# EAGLE library part STM32F765_767_777_UFBGA176 (library STM32_MCU)
STM32F765_767_777_UFBGA176 edit this description Auto generated by make-symbol-device-package-bsdl.ulp Rev. 44 Source: STM32F765_767_777_UFBGA176.bsd
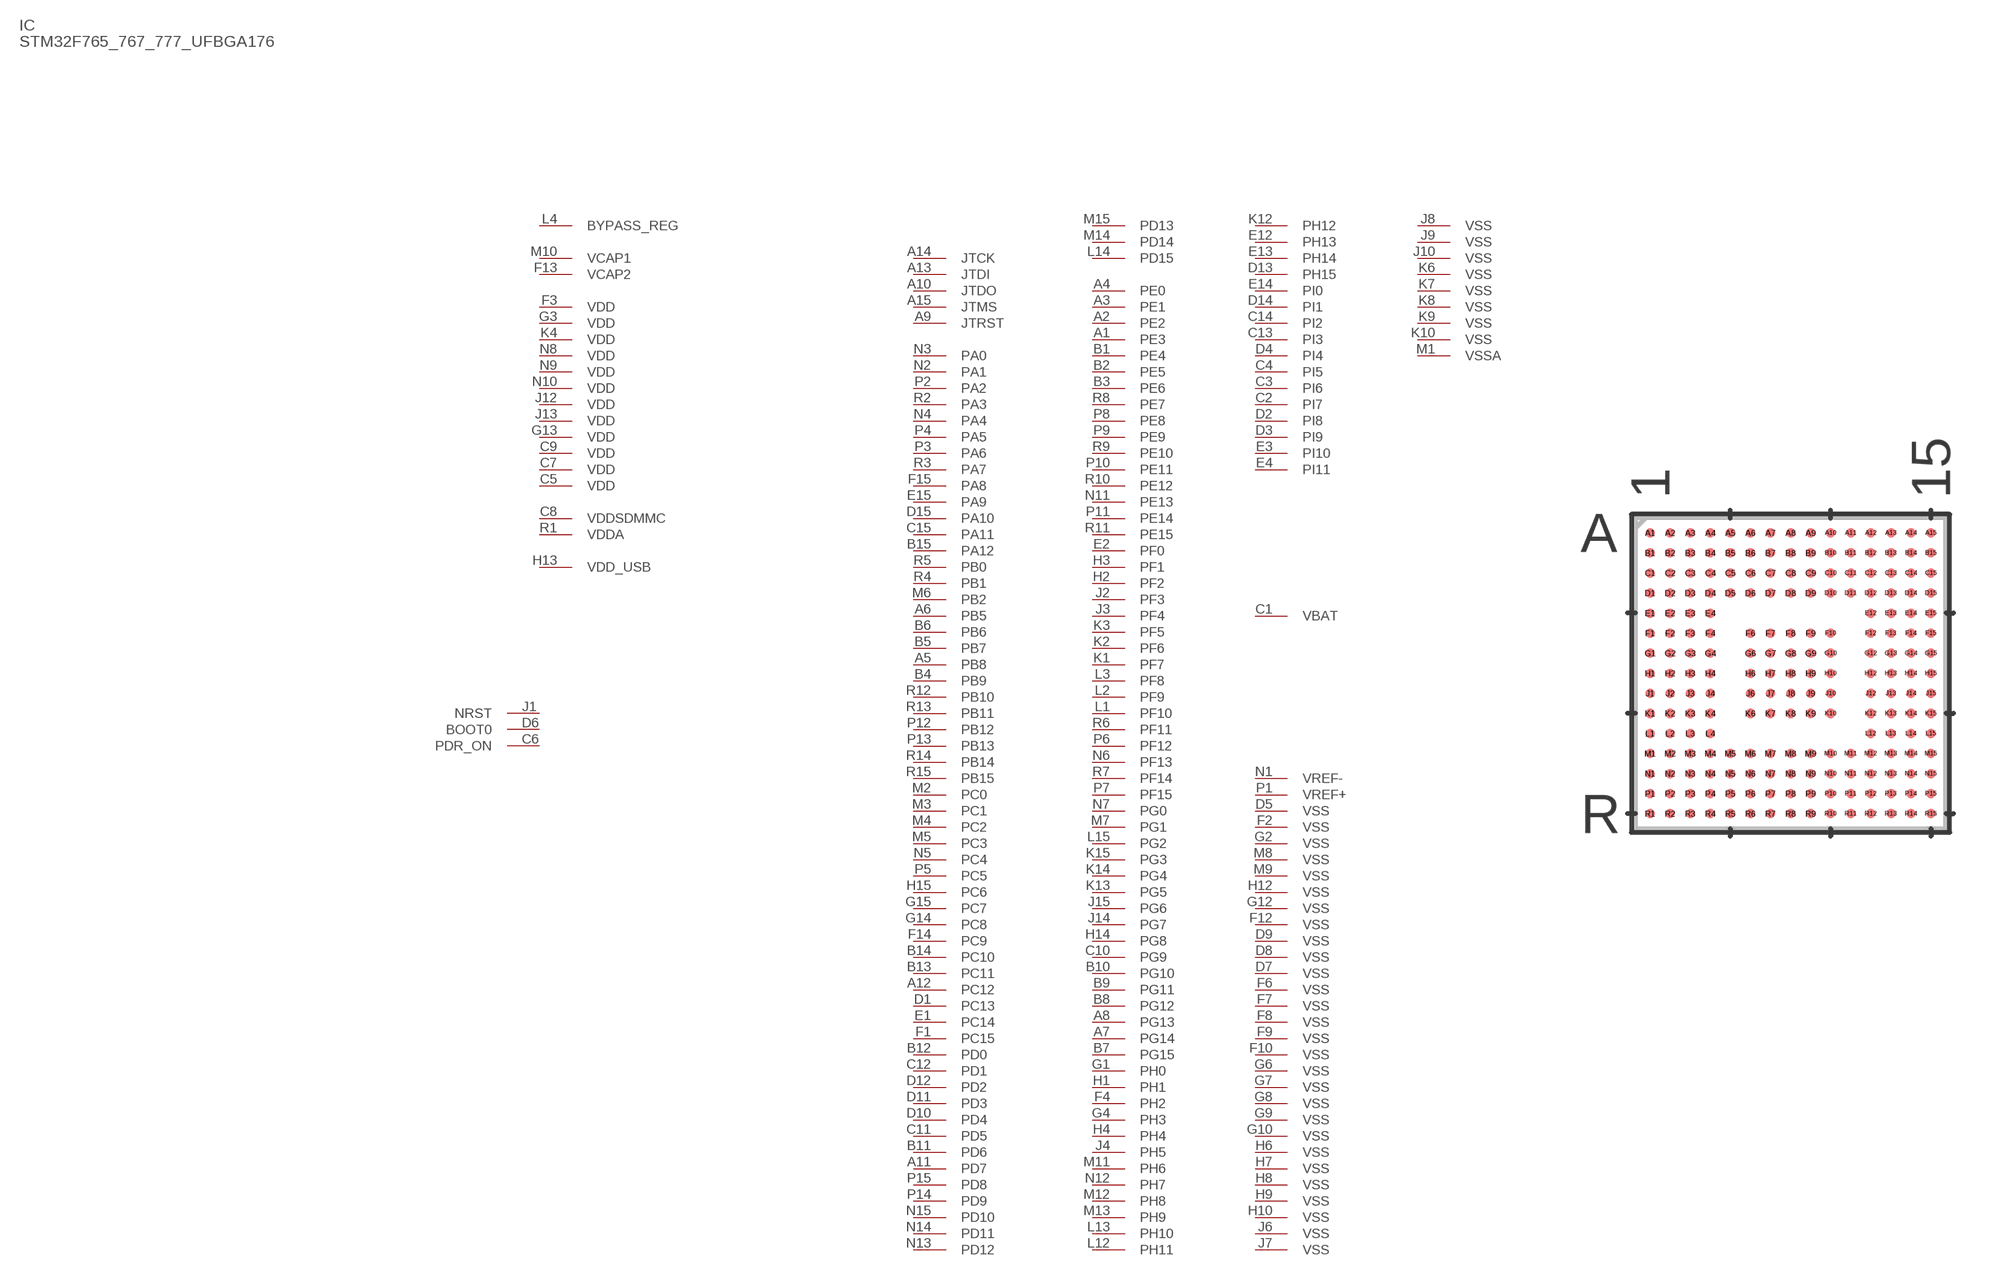
[diagram p0: symbol with the pads of UFBGA-176; footprint UFBGA-176]

Designator prefix IC

## STM32F765_767_777_UFBGA176  [UFBGA-176]
A1  PE3
A2  PE2
A3  PE1
A4  PE0
A5  PB8
A6  PB5
A7  PG14
A8  PG13
A9  JTRST  in
A10  JTDO  out
A11  PD7
A12  PC12
A13  JTDI  in
A14  JTCK  in
A15  JTMS  in
B1  PE4
B2  PE5
B3  PE6
B4  PB9
B5  PB7
B6  PB6
B7  PG15
B8  PG12
B9  PG11
B10  PG10
B11  PD6
B12  PD0
B13  PC11
B14  PC10
B15  PA12
C1  VBAT  pas
C2  PI7
C3  PI6
C4  PI5
C5  VDD  pwr
C6  PDR_ON  pas
C7  VDD  pwr
C8  VDDSDMMC  pwr
C9  VDD  pwr
C10  PG9
C11  PD5
C12  PD1
C13  PI3
C14  PI2
C15  PA11
D1  PC13
D2  PI8
D3  PI9
D4  PI4
D5  VSS  pwr
D6  BOOT0  in
D7  VSS  pwr
D8  VSS  pwr
D9  VSS  pwr
D10  PD4
D11  PD3
D12  PD2
D13  PH15
D14  PI1
D15  PA10
E1  PC14
E2  PF0
E3  PI10
E4  PI11
E12  PH13
E13  PH14
E14  PI0
E15  PA9
F1  PC15
F2  VSS  pwr
F3  VDD  pwr
F4  PH2
F6  VSS  pwr
F7  VSS  pwr
F8  VSS  pwr
F9  VSS  pwr
F10  VSS  pwr
F12  VSS  pwr
F13  VCAP2  pas
F14  PC9
F15  PA8
G1  PH0
G2  VSS  pwr
G3  VDD  pwr
G4  PH3
G6  VSS  pwr
G7  VSS  pwr
G8  VSS  pwr
G9  VSS  pwr
G10  VSS  pwr
G12  VSS  pwr
G13  VDD  pwr
G14  PC8
G15  PC7
H1  PH1
H2  PF2
H3  PF1
H4  PH4
H6  VSS  pwr
H7  VSS  pwr
H8  VSS  pwr
H9  VSS  pwr
H10  VSS  pwr
H12  VSS  pwr
H13  VDD_USB  pwr
H14  PG8
H15  PC6
J1  NRST  in
J2  PF3
J3  PF4
J4  PH5
J6  VSS  pwr
J7  VSS  pwr
J8  VSS  pwr
J9  VSS  pwr
J10  VSS  pwr
J12  VDD  pwr
J13  VDD  pwr
J14  PG7
J15  PG6
K1  PF7
K2  PF6
K3  PF5
K4  VDD  pwr
K6  VSS  pwr
K7  VSS  pwr
K8  VSS  pwr
K9  VSS  pwr
K10  VSS  pwr
K12  PH12
K13  PG5
K14  PG4
K15  PG3
L1  PF10
L2  PF9
L3  PF8
L4  BYPASS_REG  pas
L12  PH11
L13  PH10
L14  PD15
L15  PG2
M1  VSSA  pwr
M2  PC0
M3  PC1
M4  PC2
M5  PC3
M6  PB2
M7  PG1
M8  VSS  pwr
M9  VSS  pwr
M10  VCAP1  pas
M11  PH6
M12  PH8
M13  PH9
M14  PD14
M15  PD13
N1  VREF-  pas
N2  PA1
N3  PA0
N4  PA4
N5  PC4
N6  PF13
N7  PG0
N8  VDD  pwr
N9  VDD  pwr
N10  VDD  pwr
N11  PE13
N12  PH7
N13  PD12
N14  PD11
N15  PD10
P1  VREF+  pas
P2  PA2
P3  PA6
P4  PA5
P5  PC5
P6  PF12
P7  PF15
P8  PE8
P9  PE9
P10  PE11
P11  PE14
P12  PB12
P13  PB13
P14  PD9
P15  PD8
R1  VDDA  pwr
R2  PA3
R3  PA7
R4  PB1
R5  PB0
R6  PF11
R7  PF14
R8  PE7
R9  PE10
R10  PE12
R11  PE15
R12  PB10
R13  PB11
R14  PB14
R15  PB15

## Footprint UFBGA-176 (pad centres in mm)
smd 0.3 x 0.3: A1 -4.55,4.55; A2 -3.9,4.55; A3 -3.25,4.55; A4 -2.6,4.55; A5 -1.95,4.55; A6 -1.3,4.55; A7 -0.65,4.55; A8 0,4.55; A9 0.65,4.55; A10 1.3,4.55; A11 1.95,4.55; A12 2.6,4.55; A13 3.25,4.55; A14 3.9,4.55; A15 4.55,4.55; B1 -4.55,3.9; B2 -3.9,3.9; B3 -3.25,3.9; B4 -2.6,3.9; B5 -1.95,3.9; B6 -1.3,3.9; B7 -0.65,3.9; B8 0,3.9; B9 0.65,3.9; B10 1.3,3.9; B11 1.95,3.9; B12 2.6,3.9; B13 3.25,3.9; B14 3.9,3.9; B15 4.55,3.9; C1 -4.55,3.25; C2 -3.9,3.25; C3 -3.25,3.25; C4 -2.6,3.25; C5 -1.95,3.25; C6 -1.3,3.25; C7 -0.65,3.25; C8 0,3.25; C9 0.65,3.25; C10 1.3,3.25; C11 1.95,3.25; C12 2.6,3.25; C13 3.25,3.25; C14 3.9,3.25; C15 4.55,3.25; D1 -4.55,2.6; D2 -3.9,2.6; D3 -3.25,2.6; D4 -2.6,2.6; D5 -1.95,2.6; D6 -1.3,2.6; D7 -0.65,2.6; D8 0,2.6; D9 0.65,2.6; D10 1.3,2.6; D11 1.95,2.6; D12 2.6,2.6; D13 3.25,2.6; D14 3.9,2.6; D15 4.55,2.6; E1 -4.55,1.95; E2 -3.9,1.95; E3 -3.25,1.95; E4 -2.6,1.95; E12 2.6,1.95; E13 3.25,1.95; E14 3.9,1.95; E15 4.55,1.95; F1 -4.55,1.3; F2 -3.9,1.3; F3 -3.25,1.3; F4 -2.6,1.3; F6 -1.3,1.3; F7 -0.65,1.3; F8 0,1.3; F9 0.65,1.3; F10 1.3,1.3; F12 2.6,1.3; F13 3.25,1.3; F14 3.9,1.3; F15 4.55,1.3; G1 -4.55,0.65; G2 -3.9,0.65; G3 -3.25,0.65; G4 -2.6,0.65; G6 -1.3,0.65; G7 -0.65,0.65; G8 0,0.65; G9 0.65,0.65; G10 1.3,0.65; G12 2.6,0.65; G13 3.25,0.65; G14 3.9,0.65; G15 4.55,0.65; H1 -4.55,0; H2 -3.9,0; H3 -3.25,0; H4 -2.6,0; H6 -1.3,0; H7 -0.65,0; H8 0,0; H9 0.65,0; H10 1.3,0; H12 2.6,0; H13 3.25,0; H14 3.9,0; H15 4.55,0; J1 -4.55,-0.65; J2 -3.9,-0.65; J3 -3.25,-0.65; J4 -2.6,-0.65; J6 -1.3,-0.65; J7 -0.65,-0.65; J8 0,-0.65; J9 0.65,-0.65; J10 1.3,-0.65; J12 2.6,-0.65; J13 3.25,-0.65; J14 3.9,-0.65; J15 4.55,-0.65; K1 -4.55,-1.3; K2 -3.9,-1.3; K3 -3.25,-1.3; K4 -2.6,-1.3; K6 -1.3,-1.3; K7 -0.65,-1.3; K8 0,-1.3; K9 0.65,-1.3; K10 1.3,-1.3; K12 2.6,-1.3; K13 3.25,-1.3; K14 3.9,-1.3; K15 4.55,-1.3; L1 -4.55,-1.95; L2 -3.9,-1.95; L3 -3.25,-1.95; L4 -2.6,-1.95; L12 2.6,-1.95; L13 3.25,-1.95; L14 3.9,-1.95; L15 4.55,-1.95; M1 -4.55,-2.6; M2 -3.9,-2.6; M3 -3.25,-2.6; M4 -2.6,-2.6; M5 -1.95,-2.6; M6 -1.3,-2.6; M7 -0.65,-2.6; M8 0,-2.6; M9 0.65,-2.6; M10 1.3,-2.6; M11 1.95,-2.6; M12 2.6,-2.6; M13 3.25,-2.6; M14 3.9,-2.6; M15 4.55,-2.6; N1 -4.55,-3.25; N2 -3.9,-3.25; N3 -3.25,-3.25; N4 -2.6,-3.25; N5 -1.95,-3.25; N6 -1.3,-3.25; N7 -0.65,-3.25; N8 0,-3.25; N9 0.65,-3.25; N10 1.3,-3.25; N11 1.95,-3.25; N12 2.6,-3.25; N13 3.25,-3.25; N14 3.9,-3.25; N15 4.55,-3.25; P1 -4.55,-3.9; P2 -3.9,-3.9; P3 -3.25,-3.9; P4 -2.6,-3.9; P5 -1.95,-3.9; P6 -1.3,-3.9; P7 -0.65,-3.9; P8 0,-3.9; P9 0.65,-3.9; P10 1.3,-3.9; P11 1.95,-3.9; P12 2.6,-3.9; P13 3.25,-3.9; P14 3.9,-3.9; P15 4.55,-3.9; R1 -4.55,-4.55; R2 -3.9,-4.55; R3 -3.25,-4.55; R4 -2.6,-4.55; R5 -1.95,-4.55; R6 -1.3,-4.55; R7 -0.65,-4.55; R8 0,-4.55; R9 0.65,-4.55; R10 1.3,-4.55; R11 1.95,-4.55; R12 2.6,-4.55; R13 3.25,-4.55; R14 3.9,-4.55; R15 4.55,-4.55